# Altium integrated library Texas Instruments Interface I2C.IntLib: 424 symbols (part 11 of 23)
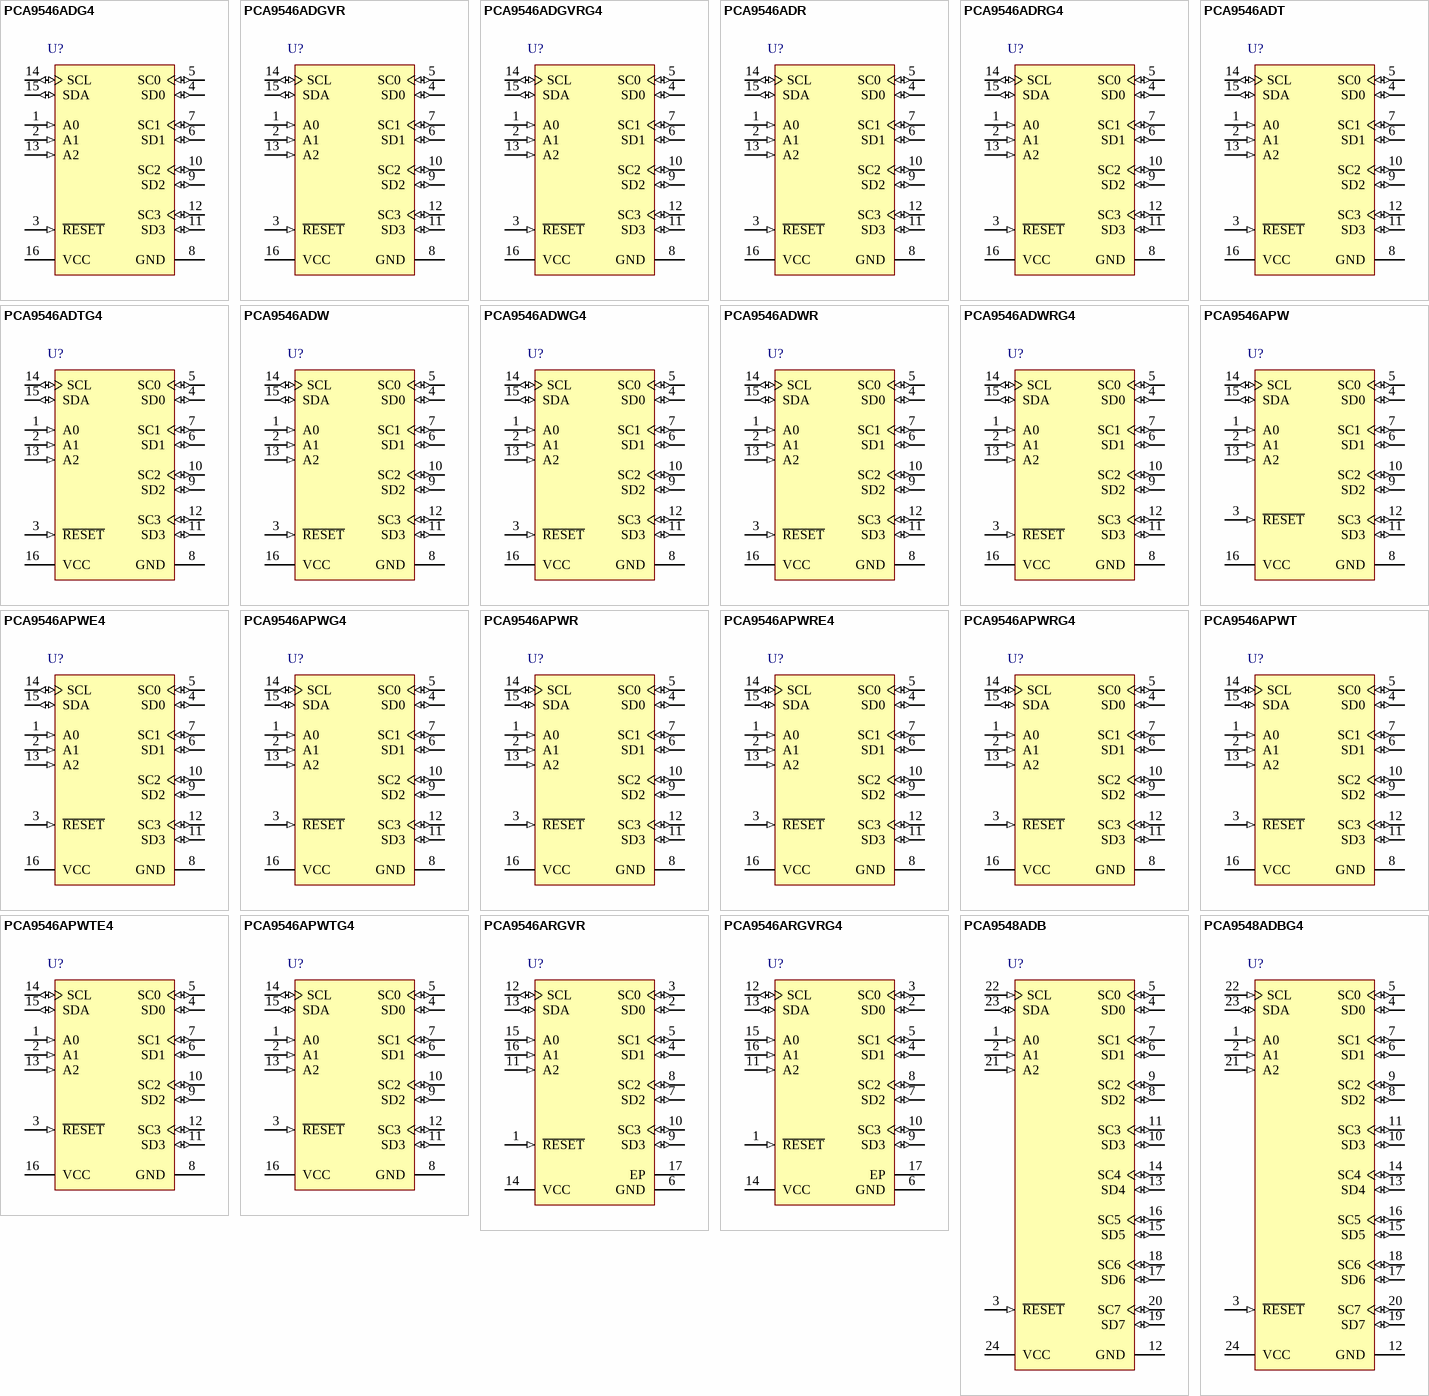
[diagram p23: symbols PCA9546ADG4 to PCA9548ADBG4]

## PCA9546ADRG4
designator U?
4-Channel I2C and SMBus Multiplexer with Reset Functions, 2.3 to 5.5 V, -40 to 85 degC, 16-pin SOIC (D), Green (RoHS & no Sb/Br); Manufacturer: Texas Instruments; PartNumber: PCA9546ADRG4; SubFamily: I2C Multiplexer, Switch; tpd max(ns): 0.3, 1; fSCLK(Max)(MHz): 100, 400; VCC(Min)(V): 2.3; VCC(Max)(V): 5.5; Max Frequency(kHz): 400; I2C Address: 1110 xxx; Channel Width: 4; Reset Input: Yes; Simultaneously Active Channels: 1 to 4; DatasheetVersion: SCPS148E; PackageVersion: revM, Jun-2011; PackageReference: D16; PackageDescription: 16-Pin Plastic Small Outline Integrated Circuit, 9.9 x 3.9 mm, Pitch 1.27 mm Pitch; Supplier 1: Digi-Key; Supplier Part Number 1: PCA9546ADRG4-ND; Supplier 2: Mouser; Supplier Part Number 2: 595-PCA9546ADRG4; Eco-Plan: Green (RoHS & no Sb/Br); Vcc range(V): 2.3 to 5.5; 5V Tolerant I/O: Yes; Open Drain I/O Type: Yes; Mounting Technology: Surface Mount; Code_JEDEC: MS-012AC; ComponentLink1Description: Datasheet; ComponentLink1URL: http://www.ti.com/general/docs/lit/getliterature.tsp?genericPartNumber=PCA9546A&fileType=pdf; ComponentLink2Description: Package Specification; ComponentLink2URL: http://www.ti.com/litv/pdf/mpds178g
footprint D16_N (SOIC, 16-Leads, Body 9.9x3.9mm, Pitch 1.27mm, IPC Medium Density)
footprint D16_L (SOIC, 16-Leads, Body 9.9x3.9mm, Pitch 1.27mm, IPC High Density)
footprint D16_M (SOIC, 16-Leads, Body 9.9x3.9mm, Pitch 1.27mm, IPC Low Density)
pins: 1 A0 (in) "Address input 0. Connect directly to VCC or ground.", 2 A1 (in) "Address input 1. Connect directly to VCC or ground.", 3 ~{RESET} (in) "Active low reset input. Connect to VCC through a pullup resistor, if not used.", 4 SD0 (io) "Serial data 0. Connect to VCC through a pullup resistor.", 5 SC0 (io) "Serial clock 0. Connect to VCC through a pullup resistor.", 6 SD1 (io) "Serial data 1. Connect to VCC through a pullup resistor.", 7 SC1 (io) "Serial clock 1. Connect to VCC through a pullup resistor.", 8 GND (power) "Ground", 9 SD2 (io) "Serial data 2. Connect to VCC through a pullup resistor.", 10 SC2 (io) "Serial clock 2. Connect to VCC through a pullup resistor.", 11 SD3 (io) "Serial data 3. Connect to VCC through a pullup resistor.", 12 SC3 (io) "Serial clock 3. Connect to VCC through a pullup resistor.", 13 A2 (in) "Address input 2. Connect directly to VCC or ground.", 14 SCL (io) "Serial clock line. Connect to VCC through a pullup resistor.", 15 SDA (io) "Serial data line. Connect to VCC through a pullup resistor.", 16 VCC (power) "Supply power"

## PCA9546ADT
designator U?
4-Channel I2C and SMBus Multiplexer with Reset Functions, 2.3 to 5.5 V, -40 to 85 degC, 16-pin SOIC (D), Green (RoHS & no Sb/Br); Manufacturer: Texas Instruments; PartNumber: PCA9546ADT; SubFamily: I2C Multiplexer, Switch; tpd max(ns): 0.3, 1; fSCLK(Max)(MHz): 100, 400; VCC(Min)(V): 2.3; VCC(Max)(V): 5.5; Max Frequency(kHz): 400; I2C Address: 1110 xxx; Channel Width: 4; Reset Input: Yes; Simultaneously Active Channels: 1 to 4; DatasheetVersion: SCPS148E; PackageVersion: revM, Jun-2011; PackageReference: D16; PackageDescription: 16-Pin Plastic Small Outline Integrated Circuit, 9.9 x 3.9 mm, Pitch 1.27 mm Pitch; Supplier 1: Digi-Key; Supplier Part Number 1: PCA9546ADT-ND; Supplier 2: Newark; Supplier Part Number 2: 06M7569; Supplier 3: Mouser; Supplier Part Number 3: 595-PCA9546ADT; Eco-Plan: Green (RoHS & no Sb/Br); Vcc range(V): 2.3 to 5.5; 5V Tolerant I/O: Yes; Open Drain I/O Type: Yes; Mounting Technology: Surface Mount; Code_JEDEC: MS-012AC; ComponentLink1Description: Datasheet; ComponentLink1URL: http://www.ti.com/general/docs/lit/getliterature.tsp?genericPartNumber=PCA9546A&fileType=pdf; ComponentLink2Description: Package Specification; ComponentLink2URL: http://www.ti.com/litv/pdf/mpds178g
footprint D16_N (SOIC, 16-Leads, Body 9.9x3.9mm, Pitch 1.27mm, IPC Medium Density)
footprint D16_L (SOIC, 16-Leads, Body 9.9x3.9mm, Pitch 1.27mm, IPC High Density)
footprint D16_M (SOIC, 16-Leads, Body 9.9x3.9mm, Pitch 1.27mm, IPC Low Density)
pins: 1 A0 (in) "Address input 0. Connect directly to VCC or ground.", 2 A1 (in) "Address input 1. Connect directly to VCC or ground.", 3 ~{RESET} (in) "Active low reset input. Connect to VCC through a pullup resistor, if not used.", 4 SD0 (io) "Serial data 0. Connect to VCC through a pullup resistor.", 5 SC0 (io) "Serial clock 0. Connect to VCC through a pullup resistor.", 6 SD1 (io) "Serial data 1. Connect to VCC through a pullup resistor.", 7 SC1 (io) "Serial clock 1. Connect to VCC through a pullup resistor.", 8 GND (power) "Ground", 9 SD2 (io) "Serial data 2. Connect to VCC through a pullup resistor.", 10 SC2 (io) "Serial clock 2. Connect to VCC through a pullup resistor.", 11 SD3 (io) "Serial data 3. Connect to VCC through a pullup resistor.", 12 SC3 (io) "Serial clock 3. Connect to VCC through a pullup resistor.", 13 A2 (in) "Address input 2. Connect directly to VCC or ground.", 14 SCL (io) "Serial clock line. Connect to VCC through a pullup resistor.", 15 SDA (io) "Serial data line. Connect to VCC through a pullup resistor.", 16 VCC (power) "Supply power"

## PCA9546ADTG4
designator U?
4-Channel I2C and SMBus Multiplexer with Reset Functions, 2.3 to 5.5 V, -40 to 85 degC, 16-pin SOIC (D), Green (RoHS & no Sb/Br); Manufacturer: Texas Instruments; PartNumber: PCA9546ADTG4; SubFamily: I2C Multiplexer, Switch; tpd max(ns): 0.3, 1; fSCLK(Max)(MHz): 100, 400; VCC(Min)(V): 2.3; VCC(Max)(V): 5.5; Max Frequency(kHz): 400; I2C Address: 1110 xxx; Channel Width: 4; Reset Input: Yes; Simultaneously Active Channels: 1 to 4; DatasheetVersion: SCPS148E; PackageVersion: revM, Jun-2011; PackageReference: D16; PackageDescription: 16-Pin Plastic Small Outline Integrated Circuit, 9.9 x 3.9 mm, Pitch 1.27 mm Pitch; Supplier 1: Digi-Key; Supplier Part Number 1: PCA9546ADTG4-ND; Supplier 2: Newark; Supplier Part Number 2: 06M7570; Supplier 3: Mouser; Supplier Part Number 3: 595-PCA9546ADTG4; Eco-Plan: Green (RoHS & no Sb/Br); Vcc range(V): 2.3 to 5.5; 5V Tolerant I/O: Yes; Open Drain I/O Type: Yes; Mounting Technology: Surface Mount; Code_JEDEC: MS-012AC; ComponentLink1Description: Datasheet; ComponentLink1URL: http://www.ti.com/general/docs/lit/getliterature.tsp?genericPartNumber=PCA9546A&fileType=pdf; ComponentLink2Description: Package Specification; ComponentLink2URL: http://www.ti.com/litv/pdf/mpds178g
footprint D16_N (SOIC, 16-Leads, Body 9.9x3.9mm, Pitch 1.27mm, IPC Medium Density)
footprint D16_L (SOIC, 16-Leads, Body 9.9x3.9mm, Pitch 1.27mm, IPC High Density)
footprint D16_M (SOIC, 16-Leads, Body 9.9x3.9mm, Pitch 1.27mm, IPC Low Density)
pins: 1 A0 (in) "Address input 0. Connect directly to VCC or ground.", 2 A1 (in) "Address input 1. Connect directly to VCC or ground.", 3 ~{RESET} (in) "Active low reset input. Connect to VCC through a pullup resistor, if not used.", 4 SD0 (io) "Serial data 0. Connect to VCC through a pullup resistor.", 5 SC0 (io) "Serial clock 0. Connect to VCC through a pullup resistor.", 6 SD1 (io) "Serial data 1. Connect to VCC through a pullup resistor.", 7 SC1 (io) "Serial clock 1. Connect to VCC through a pullup resistor.", 8 GND (power) "Ground", 9 SD2 (io) "Serial data 2. Connect to VCC through a pullup resistor.", 10 SC2 (io) "Serial clock 2. Connect to VCC through a pullup resistor.", 11 SD3 (io) "Serial data 3. Connect to VCC through a pullup resistor.", 12 SC3 (io) "Serial clock 3. Connect to VCC through a pullup resistor.", 13 A2 (in) "Address input 2. Connect directly to VCC or ground.", 14 SCL (io) "Serial clock line. Connect to VCC through a pullup resistor.", 15 SDA (io) "Serial data line. Connect to VCC through a pullup resistor.", 16 VCC (power) "Supply power"

## PCA9546ADW
designator U?
4-Channel I2C and SMBus Multiplexer with Reset Functions, 2.3 to 5.5 V, -40 to 85 degC, 16-pin SOIC (DW), Green (RoHS & no Sb/Br); Manufacturer: Texas Instruments; PartNumber: PCA9546ADW; SubFamily: I2C Multiplexer, Switch; tpd max(ns): 0.3, 1; fSCLK(Max)(MHz): 100, 400; VCC(Min)(V): 2.3; VCC(Max)(V): 5.5; Max Frequency(kHz): 400; I2C Address: 1110 xxx; Channel Width: 4; Reset Input: Yes; Simultaneously Active Channels: 1 to 4; DatasheetVersion: SCPS148E; PackageVersion: revG, Jan-2011; PackageReference: DW16; PackageDescription: 16-Pin Small Outline Integrated Circuit, 10.3 x 7.5 mm, Pitch 1.27 mm Pitch; Supplier 1: Digi-Key; Supplier Part Number 1: PCA9546ADW-ND; Supplier 2: Mouser; Supplier Part Number 2: 595-PCA9546ADW; Eco-Plan: Green (RoHS & no Sb/Br); Vcc range(V): 2.3 to 5.5; 5V Tolerant I/O: Yes; Open Drain I/O Type: Yes; Mounting Technology: Surface Mount; Code_JEDEC: MS-013-AA; ComponentLink1Description: Datasheet; ComponentLink1URL: http://www.ti.com/general/docs/lit/getliterature.tsp?genericPartNumber=PCA9546A&fileType=pdf; ComponentLink2Description: Package Specification; ComponentLink2URL: http://www.ti.com/litv/pdf/msoi003g
footprint DW16_N (SOIC, 16-Leads, Body 10.3x7.5mm, Pitch 1.27mm, IPC Medium Density)
footprint DW16_L (SOIC, 16-Leads, Body 10.3x7.5mm, Pitch 1.27mm, IPC High Density)
footprint DW16_M (SOIC, 16-Leads, Body 10.3x7.5mm, Pitch 1.27mm, IPC Low Density)
pins: 1 A0 (in) "Address input 0. Connect directly to VCC or ground.", 2 A1 (in) "Address input 1. Connect directly to VCC or ground.", 3 ~{RESET} (in) "Active low reset input. Connect to VCC through a pullup resistor, if not used.", 4 SD0 (io) "Serial data 0. Connect to VCC through a pullup resistor.", 5 SC0 (io) "Serial clock 0. Connect to VCC through a pullup resistor.", 6 SD1 (io) "Serial data 1. Connect to VCC through a pullup resistor.", 7 SC1 (io) "Serial clock 1. Connect to VCC through a pullup resistor.", 8 GND (power) "Ground", 9 SD2 (io) "Serial data 2. Connect to VCC through a pullup resistor.", 10 SC2 (io) "Serial clock 2. Connect to VCC through a pullup resistor.", 11 SD3 (io) "Serial data 3. Connect to VCC through a pullup resistor.", 12 SC3 (io) "Serial clock 3. Connect to VCC through a pullup resistor.", 13 A2 (in) "Address input 2. Connect directly to VCC or ground.", 14 SCL (io) "Serial clock line. Connect to VCC through a pullup resistor.", 15 SDA (io) "Serial data line. Connect to VCC through a pullup resistor.", 16 VCC (power) "Supply power"

## PCA9546ADWG4
designator U?
4-Channel I2C and SMBus Multiplexer with Reset Functions, 2.3 to 5.5 V, -40 to 85 degC, 16-pin SOIC (DW), Green (RoHS & no Sb/Br); Manufacturer: Texas Instruments; PartNumber: PCA9546ADWG4; SubFamily: I2C Multiplexer, Switch; tpd max(ns): 0.3, 1; fSCLK(Max)(MHz): 100, 400; VCC(Min)(V): 2.3; VCC(Max)(V): 5.5; Max Frequency(kHz): 400; I2C Address: 1110 xxx; Channel Width: 4; Reset Input: Yes; Simultaneously Active Channels: 1 to 4; DatasheetVersion: SCPS148E; PackageVersion: revG, Jan-2011; PackageReference: DW16; PackageDescription: 16-Pin Small Outline Integrated Circuit, 10.3 x 7.5 mm, Pitch 1.27 mm Pitch; Supplier 1: Digi-Key; Supplier Part Number 1: PCA9546ADWG4-ND; Supplier 2: Mouser; Supplier Part Number 2: 595-PCA9546ADWG4; Eco-Plan: Green (RoHS & no Sb/Br); Vcc range(V): 2.3 to 5.5; 5V Tolerant I/O: Yes; Open Drain I/O Type: Yes; Mounting Technology: Surface Mount; Code_JEDEC: MS-013-AA; ComponentLink1Description: Datasheet; ComponentLink1URL: http://www.ti.com/general/docs/lit/getliterature.tsp?genericPartNumber=PCA9546A&fileType=pdf; ComponentLink2Description: Package Specification; ComponentLink2URL: http://www.ti.com/litv/pdf/msoi003g
footprint DW16_N (SOIC, 16-Leads, Body 10.3x7.5mm, Pitch 1.27mm, IPC Medium Density)
footprint DW16_L (SOIC, 16-Leads, Body 10.3x7.5mm, Pitch 1.27mm, IPC High Density)
footprint DW16_M (SOIC, 16-Leads, Body 10.3x7.5mm, Pitch 1.27mm, IPC Low Density)
pins: 1 A0 (in) "Address input 0. Connect directly to VCC or ground.", 2 A1 (in) "Address input 1. Connect directly to VCC or ground.", 3 ~{RESET} (in) "Active low reset input. Connect to VCC through a pullup resistor, if not used.", 4 SD0 (io) "Serial data 0. Connect to VCC through a pullup resistor.", 5 SC0 (io) "Serial clock 0. Connect to VCC through a pullup resistor.", 6 SD1 (io) "Serial data 1. Connect to VCC through a pullup resistor.", 7 SC1 (io) "Serial clock 1. Connect to VCC through a pullup resistor.", 8 GND (power) "Ground", 9 SD2 (io) "Serial data 2. Connect to VCC through a pullup resistor.", 10 SC2 (io) "Serial clock 2. Connect to VCC through a pullup resistor.", 11 SD3 (io) "Serial data 3. Connect to VCC through a pullup resistor.", 12 SC3 (io) "Serial clock 3. Connect to VCC through a pullup resistor.", 13 A2 (in) "Address input 2. Connect directly to VCC or ground.", 14 SCL (io) "Serial clock line. Connect to VCC through a pullup resistor.", 15 SDA (io) "Serial data line. Connect to VCC through a pullup resistor.", 16 VCC (power) "Supply power"

## PCA9546ADWR
designator U?
4-Channel I2C and SMBus Multiplexer with Reset Functions, 2.3 to 5.5 V, -40 to 85 degC, 16-pin SOIC (DW), Green (RoHS & no Sb/Br); Manufacturer: Texas Instruments; PartNumber: PCA9546ADWR; SubFamily: I2C Multiplexer, Switch; tpd max(ns): 0.3, 1; fSCLK(Max)(MHz): 100, 400; VCC(Min)(V): 2.3; VCC(Max)(V): 5.5; Max Frequency(kHz): 400; I2C Address: 1110 xxx; Channel Width: 4; Reset Input: Yes; Simultaneously Active Channels: 1 to 4; DatasheetVersion: SCPS148E; PackageVersion: revG, Jan-2011; PackageReference: DW16; PackageDescription: 16-Pin Small Outline Integrated Circuit, 10.3 x 7.5 mm, Pitch 1.27 mm Pitch; Supplier 1: Digi-Key; Supplier Part Number 1: 296-20967-2-ND; Supplier 2: Digi-Key; Supplier Part Number 2: 296-20967-1-ND; Supplier 3: Digi-Key; Supplier Part Number 3: 296-20967-6-ND; Supplier 4: Mouser; Supplier Part Number 4: 595-PCA9546ADWR; Eco-Plan: Green (RoHS & no Sb/Br); Vcc range(V): 2.3 to 5.5; 5V Tolerant I/O: Yes; Open Drain I/O Type: Yes; Mounting Technology: Surface Mount; Code_JEDEC: MS-013-AA; ComponentLink1Description: Datasheet; ComponentLink1URL: http://www.ti.com/general/docs/lit/getliterature.tsp?genericPartNumber=PCA9546A&fileType=pdf; ComponentLink2Description: Package Specification; ComponentLink2URL: http://www.ti.com/litv/pdf/msoi003g
footprint DW16_N (SOIC, 16-Leads, Body 10.3x7.5mm, Pitch 1.27mm, IPC Medium Density)
footprint DW16_L (SOIC, 16-Leads, Body 10.3x7.5mm, Pitch 1.27mm, IPC High Density)
footprint DW16_M (SOIC, 16-Leads, Body 10.3x7.5mm, Pitch 1.27mm, IPC Low Density)
pins: 1 A0 (in) "Address input 0. Connect directly to VCC or ground.", 2 A1 (in) "Address input 1. Connect directly to VCC or ground.", 3 ~{RESET} (in) "Active low reset input. Connect to VCC through a pullup resistor, if not used.", 4 SD0 (io) "Serial data 0. Connect to VCC through a pullup resistor.", 5 SC0 (io) "Serial clock 0. Connect to VCC through a pullup resistor.", 6 SD1 (io) "Serial data 1. Connect to VCC through a pullup resistor.", 7 SC1 (io) "Serial clock 1. Connect to VCC through a pullup resistor.", 8 GND (power) "Ground", 9 SD2 (io) "Serial data 2. Connect to VCC through a pullup resistor.", 10 SC2 (io) "Serial clock 2. Connect to VCC through a pullup resistor.", 11 SD3 (io) "Serial data 3. Connect to VCC through a pullup resistor.", 12 SC3 (io) "Serial clock 3. Connect to VCC through a pullup resistor.", 13 A2 (in) "Address input 2. Connect directly to VCC or ground.", 14 SCL (io) "Serial clock line. Connect to VCC through a pullup resistor.", 15 SDA (io) "Serial data line. Connect to VCC through a pullup resistor.", 16 VCC (power) "Supply power"

## PCA9546ADWRG4
designator U?
4-Channel I2C and SMBus Multiplexer with Reset Functions, 2.3 to 5.5 V, -40 to 85 degC, 16-pin SOIC (DW), Green (RoHS & no Sb/Br); Manufacturer: Texas Instruments; PartNumber: PCA9546ADWRG4; SubFamily: I2C Multiplexer, Switch; tpd max(ns): 0.3, 1; fSCLK(Max)(MHz): 100, 400; VCC(Min)(V): 2.3; VCC(Max)(V): 5.5; Max Frequency(kHz): 400; I2C Address: 1110 xxx; Channel Width: 4; Reset Input: Yes; Simultaneously Active Channels: 1 to 4; DatasheetVersion: SCPS148E; PackageVersion: revG, Jan-2011; PackageReference: DW16; PackageDescription: 16-Pin Small Outline Integrated Circuit, 10.3 x 7.5 mm, Pitch 1.27 mm Pitch; Supplier 1: Digi-Key; Supplier Part Number 1: PCA9546ADWRG4-ND; Supplier 2: Mouser; Supplier Part Number 2: 595-PCA9546ADWRG4; Eco-Plan: Green (RoHS & no Sb/Br); Vcc range(V): 2.3 to 5.5; 5V Tolerant I/O: Yes; Open Drain I/O Type: Yes; Mounting Technology: Surface Mount; Code_JEDEC: MS-013-AA; ComponentLink1Description: Datasheet; ComponentLink1URL: http://www.ti.com/general/docs/lit/getliterature.tsp?genericPartNumber=PCA9546A&fileType=pdf; ComponentLink2Description: Package Specification; ComponentLink2URL: http://www.ti.com/litv/pdf/msoi003g
footprint DW16_N (SOIC, 16-Leads, Body 10.3x7.5mm, Pitch 1.27mm, IPC Medium Density)
footprint DW16_L (SOIC, 16-Leads, Body 10.3x7.5mm, Pitch 1.27mm, IPC High Density)
footprint DW16_M (SOIC, 16-Leads, Body 10.3x7.5mm, Pitch 1.27mm, IPC Low Density)
pins: 1 A0 (in) "Address input 0. Connect directly to VCC or ground.", 2 A1 (in) "Address input 1. Connect directly to VCC or ground.", 3 ~{RESET} (in) "Active low reset input. Connect to VCC through a pullup resistor, if not used.", 4 SD0 (io) "Serial data 0. Connect to VCC through a pullup resistor.", 5 SC0 (io) "Serial clock 0. Connect to VCC through a pullup resistor.", 6 SD1 (io) "Serial data 1. Connect to VCC through a pullup resistor.", 7 SC1 (io) "Serial clock 1. Connect to VCC through a pullup resistor.", 8 GND (power) "Ground", 9 SD2 (io) "Serial data 2. Connect to VCC through a pullup resistor.", 10 SC2 (io) "Serial clock 2. Connect to VCC through a pullup resistor.", 11 SD3 (io) "Serial data 3. Connect to VCC through a pullup resistor.", 12 SC3 (io) "Serial clock 3. Connect to VCC through a pullup resistor.", 13 A2 (in) "Address input 2. Connect directly to VCC or ground.", 14 SCL (io) "Serial clock line. Connect to VCC through a pullup resistor.", 15 SDA (io) "Serial data line. Connect to VCC through a pullup resistor.", 16 VCC (power) "Supply power"

## PCA9546APW
designator U?
4-Channel I2C and SMBus Multiplexer with Reset Functions, 2.3 to 5.5 V, -40 to 85 degC, 16-pin TSSOP (PW), Green (RoHS & no Sb/Br); Manufacturer: Texas Instruments; PartNumber: PCA9546APW; SubFamily: I2C Multiplexer, Switch; tpd max(ns): 0.3, 1; fSCLK(Max)(MHz): 100, 400; VCC(Min)(V): 2.3; VCC(Max)(V): 5.5; Max Frequency(kHz): 400; I2C Address: 1110 xxx; Channel Width: 4; Reset Input: Yes; Simultaneously Active Channels: 1 to 4; DatasheetVersion: SCPS148E; PackageVersion: revG, Feb-2011; PackageReference: PW16; PackageDescription: 16-Pin Plastic Thin Small Outline Package 5 x 4.4 mm Body ,0.65 mm Pitch; Supplier 1: Digi-Key; Supplier Part Number 1: PCA9546APWTI-ND; Supplier 2: Newark; Supplier Part Number 2: 67K8252; Supplier 3: Mouser; Supplier Part Number 3: 595-PCA9546APW; Eco-Plan: Green (RoHS & no Sb/Br); Vcc range(V): 2.3 to 5.5; 5V Tolerant I/O: Yes; Open Drain I/O Type: Yes; Mounting Technology: Surface Mount; Code_JEDEC: MO-153; ComponentLink1Description: Datasheet; ComponentLink1URL: http://www.ti.com/general/docs/lit/getliterature.tsp?genericPartNumber=PCA9546A&fileType=pdf
footprint PW16_N (TSOP, 16-Leads, Body 5x4.4mm, Pitch 0.65mm, IPC Medium Density)
footprint PW16_L (TSOP, 16-Leads, Body 5x4.4mm, Pitch 0.65mm, IPC High Density)
footprint PW16_M (TSOP, 16-Leads, Body 5x4.4mm, Pitch 0.65mm, IPC Low Density)
pins: 1 A0 (in) "Address input 0. Connect directly to VCC or ground.", 2 A1 (in) "Address input 1. Connect directly to VCC or ground.", 3 ~{RESET} (in) "Active low reset input. Connect to VCC through a pullup resistor, if not used.", 4 SD0 (io) "Serial data 0. Connect to VCC through a pullup resistor.", 5 SC0 (io) "Serial clock 0. Connect to VCC through a pullup resistor.", 6 SD1 (io) "Serial data 1. Connect to VCC through a pullup resistor.", 7 SC1 (io) "Serial clock 1. Connect to VCC through a pullup resistor.", 8 GND (power) "Ground", 9 SD2 (io) "Serial data 2. Connect to VCC through a pullup resistor.", 10 SC2 (io) "Serial clock 2. Connect to VCC through a pullup resistor.", 11 SD3 (io) "Serial data 3. Connect to VCC through a pullup resistor.", 12 SC3 (io) "Serial clock 3. Connect to VCC through a pullup resistor.", 13 A2 (in) "Address input 2. Connect directly to VCC or ground.", 14 SCL (io) "Serial clock line. Connect to VCC through a pullup resistor.", 15 SDA (io) "Serial data line. Connect to VCC through a pullup resistor.", 16 VCC (power) "Supply power"

## PCA9546APWE4
designator U?
4-Channel I2C and SMBus Multiplexer with Reset Functions, 2.3 to 5.5 V, -40 to 85 degC, 16-pin TSSOP (PW), Green (RoHS & no Sb/Br); Manufacturer: Texas Instruments; PartNumber: PCA9546APWE4; SubFamily: I2C Multiplexer, Switch; tpd max(ns): 0.3, 1; fSCLK(Max)(MHz): 100, 400; VCC(Min)(V): 2.3; VCC(Max)(V): 5.5; Max Frequency(kHz): 400; I2C Address: 1110 xxx; Channel Width: 4; Reset Input: Yes; Simultaneously Active Channels: 1 to 4; DatasheetVersion: SCPS148E; PackageVersion: revG, Feb-2011; PackageReference: PW16; PackageDescription: 16-Pin Plastic Thin Small Outline Package 5 x 4.4 mm Body ,0.65 mm Pitch; Supplier 1: Digi-Key; Supplier Part Number 1: PCA9546APWE4-ND; Supplier 2: Mouser; Supplier Part Number 2: 595-PCA9546APWE4; Eco-Plan: Green (RoHS & no Sb/Br); Vcc range(V): 2.3 to 5.5; 5V Tolerant I/O: Yes; Open Drain I/O Type: Yes; Mounting Technology: Surface Mount; Code_JEDEC: MO-153; ComponentLink1Description: Datasheet; ComponentLink1URL: http://www.ti.com/general/docs/lit/getliterature.tsp?genericPartNumber=PCA9546A&fileType=pdf
footprint PW16_N (TSOP, 16-Leads, Body 5x4.4mm, Pitch 0.65mm, IPC Medium Density)
footprint PW16_L (TSOP, 16-Leads, Body 5x4.4mm, Pitch 0.65mm, IPC High Density)
footprint PW16_M (TSOP, 16-Leads, Body 5x4.4mm, Pitch 0.65mm, IPC Low Density)
pins: 1 A0 (in) "Address input 0. Connect directly to VCC or ground.", 2 A1 (in) "Address input 1. Connect directly to VCC or ground.", 3 ~{RESET} (in) "Active low reset input. Connect to VCC through a pullup resistor, if not used.", 4 SD0 (io) "Serial data 0. Connect to VCC through a pullup resistor.", 5 SC0 (io) "Serial clock 0. Connect to VCC through a pullup resistor.", 6 SD1 (io) "Serial data 1. Connect to VCC through a pullup resistor.", 7 SC1 (io) "Serial clock 1. Connect to VCC through a pullup resistor.", 8 GND (power) "Ground", 9 SD2 (io) "Serial data 2. Connect to VCC through a pullup resistor.", 10 SC2 (io) "Serial clock 2. Connect to VCC through a pullup resistor.", 11 SD3 (io) "Serial data 3. Connect to VCC through a pullup resistor.", 12 SC3 (io) "Serial clock 3. Connect to VCC through a pullup resistor.", 13 A2 (in) "Address input 2. Connect directly to VCC or ground.", 14 SCL (io) "Serial clock line. Connect to VCC through a pullup resistor.", 15 SDA (io) "Serial data line. Connect to VCC through a pullup resistor.", 16 VCC (power) "Supply power"

## PCA9546APWG4
designator U?
4-Channel I2C and SMBus Multiplexer with Reset Functions, 2.3 to 5.5 V, -40 to 85 degC, 16-pin TSSOP (PW), Green (RoHS & no Sb/Br); Manufacturer: Texas Instruments; PartNumber: PCA9546APWG4; SubFamily: I2C Multiplexer, Switch; tpd max(ns): 0.3, 1; fSCLK(Max)(MHz): 100, 400; VCC(Min)(V): 2.3; VCC(Max)(V): 5.5; Max Frequency(kHz): 400; I2C Address: 1110 xxx; Channel Width: 4; Reset Input: Yes; Simultaneously Active Channels: 1 to 4; DatasheetVersion: SCPS148E; PackageVersion: revG, Feb-2011; PackageReference: PW16; PackageDescription: 16-Pin Plastic Thin Small Outline Package 5 x 4.4 mm Body ,0.65 mm Pitch; Supplier 1: Digi-Key; Supplier Part Number 1: PCA9546APWG4-ND; Supplier 2: Mouser; Supplier Part Number 2: 595-PCA9546APWG4; Eco-Plan: Green (RoHS & no Sb/Br); Vcc range(V): 2.3 to 5.5; 5V Tolerant I/O: Yes; Open Drain I/O Type: Yes; Mounting Technology: Surface Mount; Code_JEDEC: MO-153; ComponentLink1Description: Datasheet; ComponentLink1URL: http://www.ti.com/general/docs/lit/getliterature.tsp?genericPartNumber=PCA9546A&fileType=pdf
footprint PW16_N (TSOP, 16-Leads, Body 5x4.4mm, Pitch 0.65mm, IPC Medium Density)
footprint PW16_L (TSOP, 16-Leads, Body 5x4.4mm, Pitch 0.65mm, IPC High Density)
footprint PW16_M (TSOP, 16-Leads, Body 5x4.4mm, Pitch 0.65mm, IPC Low Density)
pins: 1 A0 (in) "Address input 0. Connect directly to VCC or ground.", 2 A1 (in) "Address input 1. Connect directly to VCC or ground.", 3 ~{RESET} (in) "Active low reset input. Connect to VCC through a pullup resistor, if not used.", 4 SD0 (io) "Serial data 0. Connect to VCC through a pullup resistor.", 5 SC0 (io) "Serial clock 0. Connect to VCC through a pullup resistor.", 6 SD1 (io) "Serial data 1. Connect to VCC through a pullup resistor.", 7 SC1 (io) "Serial clock 1. Connect to VCC through a pullup resistor.", 8 GND (power) "Ground", 9 SD2 (io) "Serial data 2. Connect to VCC through a pullup resistor.", 10 SC2 (io) "Serial clock 2. Connect to VCC through a pullup resistor.", 11 SD3 (io) "Serial data 3. Connect to VCC through a pullup resistor.", 12 SC3 (io) "Serial clock 3. Connect to VCC through a pullup resistor.", 13 A2 (in) "Address input 2. Connect directly to VCC or ground.", 14 SCL (io) "Serial clock line. Connect to VCC through a pullup resistor.", 15 SDA (io) "Serial data line. Connect to VCC through a pullup resistor.", 16 VCC (power) "Supply power"

## PCA9546APWR
designator U?
4-Channel I2C and SMBus Multiplexer with Reset Functions, 2.3 to 5.5 V, -40 to 85 degC, 16-pin TSSOP (PW), Green (RoHS & no Sb/Br); Manufacturer: Texas Instruments; PartNumber: PCA9546APWR; SubFamily: I2C Multiplexer, Switch; tpd max(ns): 0.3, 1; fSCLK(Max)(MHz): 100, 400; VCC(Min)(V): 2.3; VCC(Max)(V): 5.5; Max Frequency(kHz): 400; I2C Address: 1110 xxx; Channel Width: 4; Reset Input: Yes; Simultaneously Active Channels: 1 to 4; DatasheetVersion: SCPS148E; PackageVersion: revG, Feb-2011; PackageReference: PW16; PackageDescription: 16-Pin Plastic Thin Small Outline Package 5 x 4.4 mm Body ,0.65 mm Pitch; Supplier 1: Digi-Key; Supplier Part Number 1: 296-20968-2-ND; Supplier 2: Digi-Key; Supplier Part Number 2: 296-20968-1-ND; Supplier 3: Digi-Key; Supplier Part Number 3: 296-20968-6-ND; Supplier 4: Newark; Supplier Part Number 4: 67K8253; Supplier 5: Mouser; Supplier Part Number 5: 595-PCA9546APWR; Eco-Plan: Green (RoHS & no Sb/Br); Vcc range(V): 2.3 to 5.5; 5V Tolerant I/O: Yes; Open Drain I/O Type: Yes; Mounting Technology: Surface Mount; Code_JEDEC: MO-153; ComponentLink1Description: Datasheet; ComponentLink1URL: http://www.ti.com/general/docs/lit/getliterature.tsp?genericPartNumber=PCA9546A&fileType=pdf
footprint PW16_N (TSOP, 16-Leads, Body 5x4.4mm, Pitch 0.65mm, IPC Medium Density)
footprint PW16_L (TSOP, 16-Leads, Body 5x4.4mm, Pitch 0.65mm, IPC High Density)
footprint PW16_M (TSOP, 16-Leads, Body 5x4.4mm, Pitch 0.65mm, IPC Low Density)
pins: 1 A0 (in) "Address input 0. Connect directly to VCC or ground.", 2 A1 (in) "Address input 1. Connect directly to VCC or ground.", 3 ~{RESET} (in) "Active low reset input. Connect to VCC through a pullup resistor, if not used.", 4 SD0 (io) "Serial data 0. Connect to VCC through a pullup resistor.", 5 SC0 (io) "Serial clock 0. Connect to VCC through a pullup resistor.", 6 SD1 (io) "Serial data 1. Connect to VCC through a pullup resistor.", 7 SC1 (io) "Serial clock 1. Connect to VCC through a pullup resistor.", 8 GND (power) "Ground", 9 SD2 (io) "Serial data 2. Connect to VCC through a pullup resistor.", 10 SC2 (io) "Serial clock 2. Connect to VCC through a pullup resistor.", 11 SD3 (io) "Serial data 3. Connect to VCC through a pullup resistor.", 12 SC3 (io) "Serial clock 3. Connect to VCC through a pullup resistor.", 13 A2 (in) "Address input 2. Connect directly to VCC or ground.", 14 SCL (io) "Serial clock line. Connect to VCC through a pullup resistor.", 15 SDA (io) "Serial data line. Connect to VCC through a pullup resistor.", 16 VCC (power) "Supply power"

## PCA9546APWRE4
designator U?
4-Channel I2C and SMBus Multiplexer with Reset Functions, 2.3 to 5.5 V, -40 to 85 degC, 16-pin TSSOP (PW), Green (RoHS & no Sb/Br); Manufacturer: Texas Instruments; PartNumber: PCA9546APWRE4; SubFamily: I2C Multiplexer, Switch; tpd max(ns): 0.3, 1; fSCLK(Max)(MHz): 100, 400; VCC(Min)(V): 2.3; VCC(Max)(V): 5.5; Max Frequency(kHz): 400; I2C Address: 1110 xxx; Channel Width: 4; Reset Input: Yes; Simultaneously Active Channels: 1 to 4; DatasheetVersion: SCPS148E; PackageVersion: revG, Feb-2011; PackageReference: PW16; PackageDescription: 16-Pin Plastic Thin Small Outline Package 5 x 4.4 mm Body ,0.65 mm Pitch; Supplier 1: Digi-Key; Supplier Part Number 1: PCA9546APWRE4-ND; Supplier 2: Mouser; Supplier Part Number 2: 595-PCA9546APWRE4; Eco-Plan: Green (RoHS & no Sb/Br); Vcc range(V): 2.3 to 5.5; 5V Tolerant I/O: Yes; Open Drain I/O Type: Yes; Mounting Technology: Surface Mount; Code_JEDEC: MO-153; ComponentLink1Description: Datasheet; ComponentLink1URL: http://www.ti.com/general/docs/lit/getliterature.tsp?genericPartNumber=PCA9546A&fileType=pdf
footprint PW16_N (TSOP, 16-Leads, Body 5x4.4mm, Pitch 0.65mm, IPC Medium Density)
footprint PW16_L (TSOP, 16-Leads, Body 5x4.4mm, Pitch 0.65mm, IPC High Density)
footprint PW16_M (TSOP, 16-Leads, Body 5x4.4mm, Pitch 0.65mm, IPC Low Density)
pins: 1 A0 (in) "Address input 0. Connect directly to VCC or ground.", 2 A1 (in) "Address input 1. Connect directly to VCC or ground.", 3 ~{RESET} (in) "Active low reset input. Connect to VCC through a pullup resistor, if not used.", 4 SD0 (io) "Serial data 0. Connect to VCC through a pullup resistor.", 5 SC0 (io) "Serial clock 0. Connect to VCC through a pullup resistor.", 6 SD1 (io) "Serial data 1. Connect to VCC through a pullup resistor.", 7 SC1 (io) "Serial clock 1. Connect to VCC through a pullup resistor.", 8 GND (power) "Ground", 9 SD2 (io) "Serial data 2. Connect to VCC through a pullup resistor.", 10 SC2 (io) "Serial clock 2. Connect to VCC through a pullup resistor.", 11 SD3 (io) "Serial data 3. Connect to VCC through a pullup resistor.", 12 SC3 (io) "Serial clock 3. Connect to VCC through a pullup resistor.", 13 A2 (in) "Address input 2. Connect directly to VCC or ground.", 14 SCL (io) "Serial clock line. Connect to VCC through a pullup resistor.", 15 SDA (io) "Serial data line. Connect to VCC through a pullup resistor.", 16 VCC (power) "Supply power"

## PCA9546APWRG4
designator U?
4-Channel I2C and SMBus Multiplexer with Reset Functions, 2.3 to 5.5 V, -40 to 85 degC, 16-pin TSSOP (PW), Green (RoHS & no Sb/Br); Manufacturer: Texas Instruments; PartNumber: PCA9546APWRG4; SubFamily: I2C Multiplexer, Switch; tpd max(ns): 0.3, 1; fSCLK(Max)(MHz): 100, 400; VCC(Min)(V): 2.3; VCC(Max)(V): 5.5; Max Frequency(kHz): 400; I2C Address: 1110 xxx; Channel Width: 4; Reset Input: Yes; Simultaneously Active Channels: 1 to 4; DatasheetVersion: SCPS148E; PackageVersion: revG, Feb-2011; PackageReference: PW16; PackageDescription: 16-Pin Plastic Thin Small Outline Package 5 x 4.4 mm Body ,0.65 mm Pitch; Supplier 1: Digi-Key; Supplier Part Number 1: PCA9546APWRG4-ND; Supplier 2: Mouser; Supplier Part Number 2: 595-PCA9546APWRG4; Eco-Plan: Green (RoHS & no Sb/Br); Vcc range(V): 2.3 to 5.5; 5V Tolerant I/O: Yes; Open Drain I/O Type: Yes; Mounting Technology: Surface Mount; Code_JEDEC: MO-153; ComponentLink1Description: Datasheet; ComponentLink1URL: http://www.ti.com/general/docs/lit/getliterature.tsp?genericPartNumber=PCA9546A&fileType=pdf
footprint PW16_N (TSOP, 16-Leads, Body 5x4.4mm, Pitch 0.65mm, IPC Medium Density)
footprint PW16_L (TSOP, 16-Leads, Body 5x4.4mm, Pitch 0.65mm, IPC High Density)
footprint PW16_M (TSOP, 16-Leads, Body 5x4.4mm, Pitch 0.65mm, IPC Low Density)
pins: 1 A0 (in) "Address input 0. Connect directly to VCC or ground.", 2 A1 (in) "Address input 1. Connect directly to VCC or ground.", 3 ~{RESET} (in) "Active low reset input. Connect to VCC through a pullup resistor, if not used.", 4 SD0 (io) "Serial data 0. Connect to VCC through a pullup resistor.", 5 SC0 (io) "Serial clock 0. Connect to VCC through a pullup resistor.", 6 SD1 (io) "Serial data 1. Connect to VCC through a pullup resistor.", 7 SC1 (io) "Serial clock 1. Connect to VCC through a pullup resistor.", 8 GND (power) "Ground", 9 SD2 (io) "Serial data 2. Connect to VCC through a pullup resistor.", 10 SC2 (io) "Serial clock 2. Connect to VCC through a pullup resistor.", 11 SD3 (io) "Serial data 3. Connect to VCC through a pullup resistor.", 12 SC3 (io) "Serial clock 3. Connect to VCC through a pullup resistor.", 13 A2 (in) "Address input 2. Connect directly to VCC or ground.", 14 SCL (io) "Serial clock line. Connect to VCC through a pullup resistor.", 15 SDA (io) "Serial data line. Connect to VCC through a pullup resistor.", 16 VCC (power) "Supply power"

## PCA9546APWT
designator U?
4-Channel I2C and SMBus Multiplexer with Reset Functions, 2.3 to 5.5 V, -40 to 85 degC, 16-pin TSSOP (PW), Green (RoHS & no Sb/Br); Manufacturer: Texas Instruments; PartNumber: PCA9546APWT; SubFamily: I2C Multiplexer, Switch; tpd max(ns): 0.3, 1; fSCLK(Max)(MHz): 100, 400; VCC(Min)(V): 2.3; VCC(Max)(V): 5.5; Max Frequency(kHz): 400; I2C Address: 1110 xxx; Channel Width: 4; Reset Input: Yes; Simultaneously Active Channels: 1 to 4; DatasheetVersion: SCPS148E; PackageVersion: revG, Feb-2011; PackageReference: PW16; PackageDescription: 16-Pin Plastic Thin Small Outline Package 5 x 4.4 mm Body ,0.65 mm Pitch; Supplier 1: Digi-Key; Supplier Part Number 1: 296-28989-2-ND; Supplier 2: Digi-Key; Supplier Part Number 2: 296-28989-1-ND; Supplier 3: Digi-Key; Supplier Part Number 3: 296-28989-6-ND; Supplier 4: Farnell; Supplier Part Number 4: 1564905; Supplier 5: Farnell; Supplier Part Number 5: 1564905RL; Supplier 6: Newark; Supplier Part Number 6: 67K8254; Supplier 7: Mouser; Supplier Part Number 7: 595-PCA9546APWT; Eco-Plan: Green (RoHS & no Sb/Br); Vcc range(V): 2.3 to 5.5; 5V Tolerant I/O: Yes; Open Drain I/O Type: Yes; Mounting Technology: Surface Mount; Code_JEDEC: MO-153; ComponentLink1Description: Datasheet; ComponentLink1URL: http://www.ti.com/general/docs/lit/getliterature.tsp?genericPartNumber=PCA9546A&fileType=pdf
footprint PW16_N (TSOP, 16-Leads, Body 5x4.4mm, Pitch 0.65mm, IPC Medium Density)
footprint PW16_L (TSOP, 16-Leads, Body 5x4.4mm, Pitch 0.65mm, IPC High Density)
footprint PW16_M (TSOP, 16-Leads, Body 5x4.4mm, Pitch 0.65mm, IPC Low Density)
pins: 1 A0 (in) "Address input 0. Connect directly to VCC or ground.", 2 A1 (in) "Address input 1. Connect directly to VCC or ground.", 3 ~{RESET} (in) "Active low reset input. Connect to VCC through a pullup resistor, if not used.", 4 SD0 (io) "Serial data 0. Connect to VCC through a pullup resistor.", 5 SC0 (io) "Serial clock 0. Connect to VCC through a pullup resistor.", 6 SD1 (io) "Serial data 1. Connect to VCC through a pullup resistor.", 7 SC1 (io) "Serial clock 1. Connect to VCC through a pullup resistor.", 8 GND (power) "Ground", 9 SD2 (io) "Serial data 2. Connect to VCC through a pullup resistor.", 10 SC2 (io) "Serial clock 2. Connect to VCC through a pullup resistor.", 11 SD3 (io) "Serial data 3. Connect to VCC through a pullup resistor.", 12 SC3 (io) "Serial clock 3. Connect to VCC through a pullup resistor.", 13 A2 (in) "Address input 2. Connect directly to VCC or ground.", 14 SCL (io) "Serial clock line. Connect to VCC through a pullup resistor.", 15 SDA (io) "Serial data line. Connect to VCC through a pullup resistor.", 16 VCC (power) "Supply power"

## PCA9546APWTE4
designator U?
4-Channel I2C and SMBus Multiplexer with Reset Functions, 2.3 to 5.5 V, -40 to 85 degC, 16-pin TSSOP (PW), Green (RoHS & no Sb/Br); Manufacturer: Texas Instruments; PartNumber: PCA9546APWTE4; SubFamily: I2C Multiplexer, Switch; tpd max(ns): 0.3, 1; fSCLK(Max)(MHz): 100, 400; VCC(Min)(V): 2.3; VCC(Max)(V): 5.5; Max Frequency(kHz): 400; I2C Address: 1110 xxx; Channel Width: 4; Reset Input: Yes; Simultaneously Active Channels: 1 to 4; DatasheetVersion: SCPS148E; PackageVersion: revG, Feb-2011; PackageReference: PW16; PackageDescription: 16-Pin Plastic Thin Small Outline Package 5 x 4.4 mm Body ,0.65 mm Pitch; Supplier 1: Digi-Key; Supplier Part Number 1: PCA9546APWTE4-ND; Supplier 2: Mouser; Supplier Part Number 2: 595-PCA9546APWTE4; Eco-Plan: Green (RoHS & no Sb/Br); Vcc range(V): 2.3 to 5.5; 5V Tolerant I/O: Yes; Open Drain I/O Type: Yes; Mounting Technology: Surface Mount; Code_JEDEC: MO-153; ComponentLink1Description: Datasheet; ComponentLink1URL: http://www.ti.com/general/docs/lit/getliterature.tsp?genericPartNumber=PCA9546A&fileType=pdf
footprint PW16_N (TSOP, 16-Leads, Body 5x4.4mm, Pitch 0.65mm, IPC Medium Density)
footprint PW16_L (TSOP, 16-Leads, Body 5x4.4mm, Pitch 0.65mm, IPC High Density)
footprint PW16_M (TSOP, 16-Leads, Body 5x4.4mm, Pitch 0.65mm, IPC Low Density)
pins: 1 A0 (in) "Address input 0. Connect directly to VCC or ground.", 2 A1 (in) "Address input 1. Connect directly to VCC or ground.", 3 ~{RESET} (in) "Active low reset input. Connect to VCC through a pullup resistor, if not used.", 4 SD0 (io) "Serial data 0. Connect to VCC through a pullup resistor.", 5 SC0 (io) "Serial clock 0. Connect to VCC through a pullup resistor.", 6 SD1 (io) "Serial data 1. Connect to VCC through a pullup resistor.", 7 SC1 (io) "Serial clock 1. Connect to VCC through a pullup resistor.", 8 GND (power) "Ground", 9 SD2 (io) "Serial data 2. Connect to VCC through a pullup resistor.", 10 SC2 (io) "Serial clock 2. Connect to VCC through a pullup resistor.", 11 SD3 (io) "Serial data 3. Connect to VCC through a pullup resistor.", 12 SC3 (io) "Serial clock 3. Connect to VCC through a pullup resistor.", 13 A2 (in) "Address input 2. Connect directly to VCC or ground.", 14 SCL (io) "Serial clock line. Connect to VCC through a pullup resistor.", 15 SDA (io) "Serial data line. Connect to VCC through a pullup resistor.", 16 VCC (power) "Supply power"

## PCA9546APWTG4
designator U?
4-Channel I2C and SMBus Multiplexer with Reset Functions, 2.3 to 5.5 V, -40 to 85 degC, 16-pin TSSOP (PW), Green (RoHS & no Sb/Br); Manufacturer: Texas Instruments; PartNumber: PCA9546APWTG4; SubFamily: I2C Multiplexer, Switch; tpd max(ns): 0.3, 1; fSCLK(Max)(MHz): 100, 400; VCC(Min)(V): 2.3; VCC(Max)(V): 5.5; Max Frequency(kHz): 400; I2C Address: 1110 xxx; Channel Width: 4; Reset Input: Yes; Simultaneously Active Channels: 1 to 4; DatasheetVersion: SCPS148E; PackageVersion: revG, Feb-2011; PackageReference: PW16; PackageDescription: 16-Pin Plastic Thin Small Outline Package 5 x 4.4 mm Body ,0.65 mm Pitch; Supplier 1: Digi-Key; Supplier Part Number 1: PCA9546APWTG4-ND; Supplier 2: Mouser; Supplier Part Number 2: 595-PCA9546APWTG4; Eco-Plan: Green (RoHS & no Sb/Br); Vcc range(V): 2.3 to 5.5; 5V Tolerant I/O: Yes; Open Drain I/O Type: Yes; Mounting Technology: Surface Mount; Code_JEDEC: MO-153; ComponentLink1Description: Datasheet; ComponentLink1URL: http://www.ti.com/general/docs/lit/getliterature.tsp?genericPartNumber=PCA9546A&fileType=pdf
footprint PW16_N (TSOP, 16-Leads, Body 5x4.4mm, Pitch 0.65mm, IPC Medium Density)
footprint PW16_L (TSOP, 16-Leads, Body 5x4.4mm, Pitch 0.65mm, IPC High Density)
footprint PW16_M (TSOP, 16-Leads, Body 5x4.4mm, Pitch 0.65mm, IPC Low Density)
pins: 1 A0 (in) "Address input 0. Connect directly to VCC or ground.", 2 A1 (in) "Address input 1. Connect directly to VCC or ground.", 3 ~{RESET} (in) "Active low reset input. Connect to VCC through a pullup resistor, if not used.", 4 SD0 (io) "Serial data 0. Connect to VCC through a pullup resistor.", 5 SC0 (io) "Serial clock 0. Connect to VCC through a pullup resistor.", 6 SD1 (io) "Serial data 1. Connect to VCC through a pullup resistor.", 7 SC1 (io) "Serial clock 1. Connect to VCC through a pullup resistor.", 8 GND (power) "Ground", 9 SD2 (io) "Serial data 2. Connect to VCC through a pullup resistor.", 10 SC2 (io) "Serial clock 2. Connect to VCC through a pullup resistor.", 11 SD3 (io) "Serial data 3. Connect to VCC through a pullup resistor.", 12 SC3 (io) "Serial clock 3. Connect to VCC through a pullup resistor.", 13 A2 (in) "Address input 2. Connect directly to VCC or ground.", 14 SCL (io) "Serial clock line. Connect to VCC through a pullup resistor.", 15 SDA (io) "Serial data line. Connect to VCC through a pullup resistor.", 16 VCC (power) "Supply power"

## PCA9546ARGVR
designator U?
4-Channel I2C and SMBus Multiplexer with Reset Functions, 2.3 to 5.5 V, -40 to 85 degC, 16-pin VQFN (RGV), Green (RoHS & no Sb/Br); Manufacturer: Texas Instruments; PartNumber: PCA9546ARGVR; SubFamily: I2C Multiplexer, Switch; tpd max(ns): 0.3, 1; fSCLK(Max)(MHz): 100, 400; VCC(Min)(V): 2.3; VCC(Max)(V): 5.5; Max Frequency(kHz): 400; I2C Address: 1110 xxx; Channel Width: 4; Reset Input: Yes; Simultaneously Active Channels: 1 to 4; DatasheetVersion: SCPS148E; PackageVersion: revF, Jun-2011; PackageReference: RGV16-2160X2160TP; PackageDescription: 16-Pin Plastic Quad Flat No-Lead, 4 x 4 mm Body, 0.65 mm Pitch, 2.16 x 2.16 mm Exposed Pad; Supplier 1: Digi-Key; Supplier Part Number 1: 296-21771-2-ND; Supplier 2: Digi-Key; Supplier Part Number 2: 296-21771-1-ND; Supplier 3: Digi-Key; Supplier Part Number 3: 296-21771-6-ND; Supplier 4: Newark; Supplier Part Number 4: 30M1566; Supplier 5: Mouser; Supplier Part Number 5: 595-PCA9546ARGVR; Eco-Plan: Green (RoHS & no Sb/Br); Vcc range(V): 2.3 to 5.5; 5V Tolerant I/O: Yes; Open Drain I/O Type: Yes; Mounting Technology: Surface Mount; ComponentLink1Description: Datasheet; ComponentLink1URL: http://www.ti.com/general/docs/lit/getliterature.tsp?genericPartNumber=PCA9546A&fileType=pdf; ComponentLink2Description: Package Specification; ComponentLink2URL: http://www.ti.com/litv/pdf/mpds178g
footprint RGV16-2160X2160TP (QFN, 16-Leads, Body 4x4mm, Pitch 0.65mm, Thermal Pad 2.16x2.16mm, TI Recommended)
pins: 1 ~{RESET} (in) "Active low reset input. Connect to VCC through a pullup resistor, if not used.", 2 SD0 (io) "Serial data 0. Connect to VCC through a pullup resistor.", 3 SC0 (io) "Serial clock 0. Connect to VCC through a pullup resistor.", 4 SD1 (io) "Serial data 1. Connect to VCC through a pullup resistor.", 5 SC1 (io) "Serial clock 1. Connect to VCC through a pullup resistor.", 6 GND (power) "Ground", 7 SD2 (io) "Serial data 2. Connect to VCC through a pullup resistor.", 8 SC2 (io) "Serial clock 2. Connect to VCC through a pullup resistor.", 9 SD3 (io) "Serial data 3. Connect to VCC through a pullup resistor.", 10 SC3 (io) "Serial clock 3. Connect to VCC through a pullup resistor.", 11 A2 (in) "Address input 2. Connect directly to VCC or ground.", 12 SCL (io) "Serial clock line. Connect to VCC through a pullup resistor.", 13 SDA (io) "Serial data line. Connect to VCC through a pullup resistor.", 14 VCC (power) "Supply power", 15 A0 (in) "Address input 0. Connect directly to VCC or ground.", 16 A1 (in) "Address input 1. Connect directly to VCC or ground.", 17 EP "Exposed Pad"

## PCA9546ARGVRG4
designator U?
4-Channel I2C and SMBus Multiplexer with Reset Functions, 2.3 to 5.5 V, -40 to 85 degC, 16-pin VQFN (RGV), Green (RoHS & no Sb/Br); Manufacturer: Texas Instruments; PartNumber: PCA9546ARGVRG4; SubFamily: I2C Multiplexer, Switch; tpd max(ns): 0.3, 1; fSCLK(Max)(MHz): 100, 400; VCC(Min)(V): 2.3; VCC(Max)(V): 5.5; Max Frequency(kHz): 400; I2C Address: 1110 xxx; Channel Width: 4; Reset Input: Yes; Simultaneously Active Channels: 1 to 4; DatasheetVersion: SCPS148E; PackageVersion: revF, Jun-2011; PackageReference: RGV16-2160X2160TP; PackageDescription: 16-Pin Plastic Quad Flat No-Lead, 4 x 4 mm Body, 0.65 mm Pitch, 2.16 x 2.16 mm Exposed Pad; Supplier 1: Digi-Key; Supplier Part Number 1: PCA9546ARGVRG4-ND; Supplier 2: Mouser; Supplier Part Number 2: 595-PCA9546ARGVRG4; Eco-Plan: Green (RoHS & no Sb/Br); Vcc range(V): 2.3 to 5.5; 5V Tolerant I/O: Yes; Open Drain I/O Type: Yes; Mounting Technology: Surface Mount; ComponentLink1Description: Datasheet; ComponentLink1URL: http://www.ti.com/general/docs/lit/getliterature.tsp?genericPartNumber=PCA9546A&fileType=pdf; ComponentLink2Description: Package Specification; ComponentLink2URL: http://www.ti.com/litv/pdf/mpds178g
footprint RGV16-2160X2160TP (QFN, 16-Leads, Body 4x4mm, Pitch 0.65mm, Thermal Pad 2.16x2.16mm, TI Recommended)
pins: 1 ~{RESET} (in) "Active low reset input. Connect to VCC through a pullup resistor, if not used.", 2 SD0 (io) "Serial data 0. Connect to VCC through a pullup resistor.", 3 SC0 (io) "Serial clock 0. Connect to VCC through a pullup resistor.", 4 SD1 (io) "Serial data 1. Connect to VCC through a pullup resistor.", 5 SC1 (io) "Serial clock 1. Connect to VCC through a pullup resistor.", 6 GND (power) "Ground", 7 SD2 (io) "Serial data 2. Connect to VCC through a pullup resistor.", 8 SC2 (io) "Serial clock 2. Connect to VCC through a pullup resistor.", 9 SD3 (io) "Serial data 3. Connect to VCC through a pullup resistor.", 10 SC3 (io) "Serial clock 3. Connect to VCC through a pullup resistor.", 11 A2 (in) "Address input 2. Connect directly to VCC or ground.", 12 SCL (io) "Serial clock line. Connect to VCC through a pullup resistor.", 13 SDA (io) "Serial data line. Connect to VCC through a pullup resistor.", 14 VCC (power) "Supply power", 15 A0 (in) "Address input 0. Connect directly to VCC or ground.", 16 A1 (in) "Address input 1. Connect directly to VCC or ground.", 17 EP "Exposed Pad"

## PCA9548ADB
designator U?
8-Channel I2C Switch with Reset, 2.3 to 5.5 V, -40 to 85 degC, 24-pin SSOP (DB), Green (RoHS & no Sb/Br); Manufacturer: Texas Instruments; PartNumber: PCA9548ADB; SubFamily: I2C Multiplexer, Switch; Technology Family: PCA; fSCLK(Max)(MHz): 100, 400; VCC(Min)(V): 2.3; VCC(Max)(V): 5.5; Max Frequency(kHz): 400; I2C Address: 1110 xxx; Channel Width: 8; Reset Input: Yes; Simultaneously Active Channels: 1 to 8; DatasheetVersion: SCPS143C; PackageVersion: revE, Dec-2001; PackageReference: DB24; PackageDescription: 24-Pin Plastic Small Outline Package, 8.2 x 5.3 mm Body, 0.65 mm Pitch; Supplier 1: Digi-Key; Supplier Part Number 1: PCA9548ADB-ND; Supplier 2: Farnell; Supplier Part Number 2: 1574999; Supplier 3: Newark; Supplier Part Number 3: 22M1598; Supplier 4: Mouser; Supplier Part Number 4: 595-PCA9548ADB; Eco-Plan: Green (RoHS & no Sb/Br); Vcc range(V): 2.3 to 5.5; 5V Tolerant I/O: Yes; Open Drain I/O Type: Yes; Mounting Technology: Surface Mount; Code_JEDEC: MO-150; ComponentLink1Description: Datasheet; ComponentLink1URL: http://www.ti.com/general/docs/lit/getliterature.tsp?genericPartNumber=PCA9548A&fileType=pdf; ComponentLink2Description: Package Specification; ComponentLink2URL: http://www.ti.com/litv/pdf/mpds211a
footprint DB24_N (SOP, 24-Leads, Body 8.2x5.3mm, Pitch 0.65mm, IPC Medium Density)
footprint DB24_L (SOP, 24-Leads, Body 8.2x5.3mm, Pitch 0.65mm, IPC High Density)
footprint DB24_M (SOP, 24-Leads, Body 8.2x5.3mm, Pitch 0.65mm, IPC Low Density)
pins: 1 A0 (in) "Address input 0. Connect directly to VCC or ground.", 2 A1 (in) "Address input 1. Connect directly to VCC or ground.", 3 ~{RESET} (in) "Active-low reset input. Connect to VCC through a pullup resistor, if not used.", 4 SD0 (io) "Serial data 0. Connect to VCC through a pullup resistor.", 5 SC0 (io) "Serial clock 0. Connect to VCC through a pullup resistor.", 6 SD1 (io) "Serial data 1. Connect to VCC through a pullup resistor.", 7 SC1 (io) "Serial clock 1. Connect to VCC through a pullup resistor.", 8 SD2 (io) "Serial data 2. Connect to VCC through a pullup resistor.", 9 SC2 (io) "Serial clock 2. Connect to VCC through a pullup resistor.", 10 SD3 (io) "Serial data 3. Connect to VCC through a pullup resistor.", 11 SC3 (io) "Serial clock 3. Connect to VCC through a pullup resistor.", 12 GND (power) "Ground", 13 SD4 (io) "Serial data 4. Connect to VCC through a pullup resistor.", 14 SC4 (io) "Serial clock 4. Connect to VCC through a pullup resistor.", 15 SD5 (io) "Serial data 5. Connect to VCC through a pullup resistor.", 16 SC5 (io) "Serial clock 5. Connect to VCC through a pullup resistor.", 17 SD6 (io) "Serial data 6. Connect to VCC through a pullup resistor.", 18 SC6 (io) "Serial clock 6. Connect to VCC through a pullup resistor.", 19 SD7 (io) "Serial data 7. Connect to VCC through a pullup resistor.", 20 SC7 (io) "Serial clock 7. Connect to VCC through a pullup resistor.", 21 A2 (in) "Address input 2. Connect directly to VCC or ground.", 22 SCL (in) "Serial clock bus. Connect to VCC through a pullup resistor.", 23 SDA (io) "Serial data bus. Connect to VCC through a pullup resistor.", 24 VCC (power) "Supply voltage"